# Altium schematic symbol library Si53360-B-GT.SchLib: 1 symbol
Pins are listed as number, name and electrical type; pins without a type are passive.

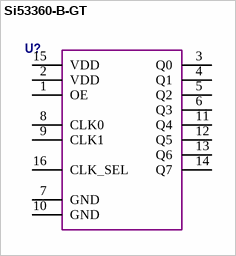
[diagram p0: symbol Si53360-B-GT]

## Si53360-B-GT
designator U?  (value not drawn)
pins: 1 OE, 2 VDD, 3 Q0, 4 Q1, 5 Q2, 6 Q3, 7 GND, 8 CLK0, 9 CLK1, 10 GND, 11 Q4, 12 Q5, 13 Q6, 14 Q7, 15 VDD, 16 CLK_SEL